# Altium integrated library MBR2045CT-E3_45.IntLib: 1 symbol
Pins are listed as number, name and electrical type; pins without a type are passive.

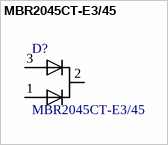
[diagram p0: symbol MBR2045CT-E3/45]

## MBR2045CT-E3/45
designator D?
MBR2045 Series 45 V 150 A Dual Common-Cathode Schottky Rectifier - TO-220AB; MF: Vishay Semiconductor; SnapEDA_Link: https://www.snapeda.com/parts/MBR2045CT-E3/45/Vishay%20Semiconductor%20Diodes%20Division/view-part/?ref=snap; Availability: Unavailable; Package: TO-220 Vishay; Price: 0.60 USD; MP: MBR2045CT-E3/45; Value: *
footprint TO254P1051X465X2009-3
pins: 1 A1, 2 C, 3 A2